# EAGLE library part AX-DVK2-MOD-S (library axsem_v4-11)
AXSEM DVK-2 RF modules
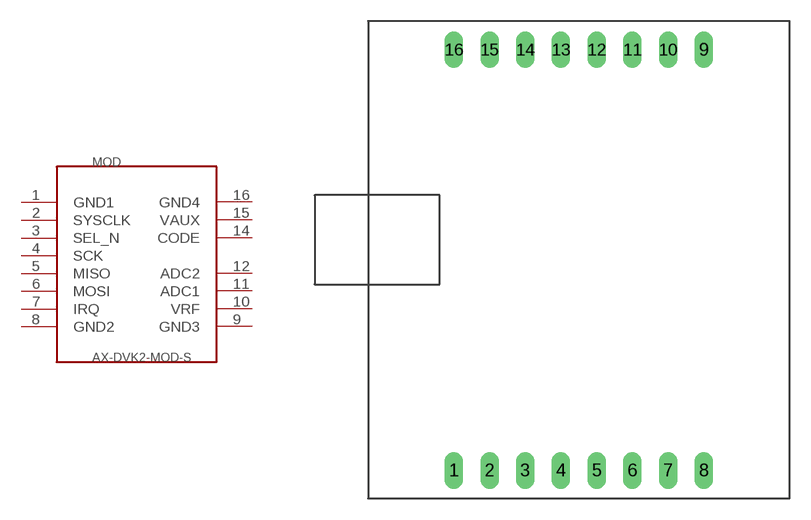
[diagram p12: symbol with the pads of DVK2-MOD-S; footprint DVK2-MOD-S]

Designator prefix MOD

## AX-DVK2-MOD-SSMALL  [DVK2-MOD-S]
1  GND1  pwr
2  SYSCLK  out
3  SEL_N  in
4  SCK  in
5  MISO  out
6  MOSI  in
7  IRQ  out
8  GND2  pwr
9  GND3  pwr
10  VRF  pwr
11  ADC1  pas
12  ADC2  pas
14  CODE  pas
15  VAUX  pwr
16  GND4  pwr

## Footprint DVK2-MOD-S (pad centres in mm)
AXSEM DVK-2 module small for 868 and 433 MHz
drill 0.8 long: 1 6.1,2; 2 8.64,2; 3 11.18,2; 4 13.72,2; 5 16.26,2; 6 18.8,2; 7 21.34,2; 8 23.88,2; 9 23.88,31.96; 10 21.34,31.96; 11 18.8,31.96; 12 16.26,31.96; 13 13.72,31.96; 14 11.18,31.96; 15 8.64,31.96; 16 6.1,31.96